# Altium footprint library SOIC8P127_490X600X175L83X42N.PcbLib: 1 footprints
Each footprint in its own frame and in the unit in brackets; x right, y up, seen from the top. Pads: shape width x height; smd on the part's side, far side on the other; paste and mask are expansions set on the pad; w line width, h text height; cw(c..) or ccw(c..) is an arc to the next point about the centre after c.
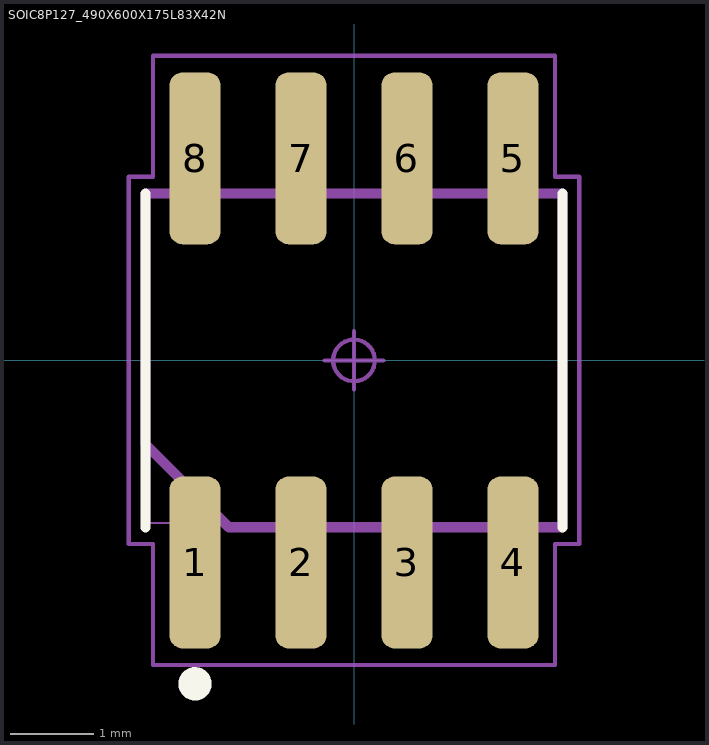
[diagram p0: the footprint, top view; thin cyan lines are the x and y axes]

## SOIC8P127_490X600X175L83X42N [mm] "Small Outline IC (SOIC), 1.27 mm pitch; 8 pin, 4.90 mm L X 3.90 mm W X 1.75 mm H body"
height 1.75
pads (8):
  rrect50% 0.61x2.058 smd mask+0.05: 1(-1.905,-2.421) 2(-0.635,-2.421) 3(0.635,-2.421) 4(1.905,-2.421) 5(1.905,2.421) 6(0.635,2.421) 7(-0.635,2.421) 8(-1.905,2.421)
Top Overlay:
  circle w0.2: c-1.905,-3.875 r0.1
  lines w0.12: -2.5,-2 -2.5,2 ; 2.5,-2 2.5,2
Mechanical 11:
  lines w0.12: -2.5,-1 -2.5,2 2.5,2 2.5,-2 -1.5,-2 -2.5,-1
Mechanical 12:
  lines w0.025: -2.45,-1.95 2.45,-1.95 2.45,1.95 -2.45,1.95 -2.45,-1.95 ; -2.115,-3 -2.115,-2.164 -1.695,-2.164 -1.695,-3 -2.115,-3 ; -2.115,2.164 -2.115,3 -1.695,3 -1.695,2.164 -2.115,2.164 ; -0.845,-3 -0.845,-2.164 -0.425,-2.164 -0.425,-3 -0.845,-3 ; -0.845,2.164 -0.845,3 -0.425,3 -0.425,2.164 -0.845,2.164 ; 0.425,-3 0.425,-2.164 0.845,-2.164 0.845,-3 0.425,-3 ; 0.425,2.164 0.425,3 0.845,3 0.845,2.164 0.425,2.164 ; 1.695,-3 1.695,-2.164 2.115,-2.164 2.115,-3 1.695,-3 ; 1.695,2.164 1.695,3 2.115,3 2.115,2.164 1.695,2.164
Mechanical 15:
  circle w0.05: c0,0 r0.25
  lines w0.05: -0.35,0 0.35,0 ; 0,-0.35 0,0.35 ; -2.7,-2.2 -2.41,-2.2 -2.41,-3.65 2.41,-3.65 2.41,-2.2 2.7,-2.2 2.7,2.2 2.41,2.2 2.41,3.65 -2.41,3.65 -2.41,2.2 -2.7,2.2 -2.7,-2.2
Mechanical 16:
  text ".Designator" at 0,0 h1.2
3D body "SOIC8P127_490X600X175L83X42.STEP": height 1.75, standoff 0, extent -2.45,-3 2.45,3